# EAGLE library part DW01A (library DW01A)
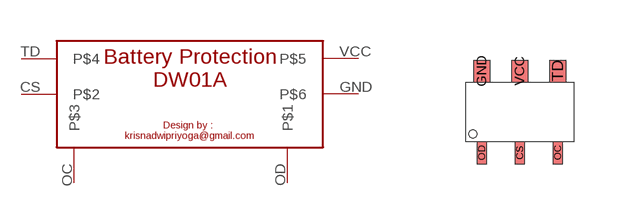
[diagram p0: symbol with the pads of DW01A; footprint DW01A]

Designator prefix -

## DW01A  [DW01A]
CS  P$2
GND  P$6
OC  P$3
OD  P$1
TD  P$4
VCC  P$5

## Footprint DW01A (pad centres in mm)
smd 0.25 x 0.55: CS 1.35,-0.275; OC 2.3,-0.275; OD 0.4,-0.275
smd 0.4 x 0.55: GND 0.4,1.775; TD 2.3,1.775; VCC 1.35,1.775